# Altium schematic symbol library SmartplugComponents.SchLib: 9 symbols
Pins are listed as number, name and electrical type; pins without a type are passive.

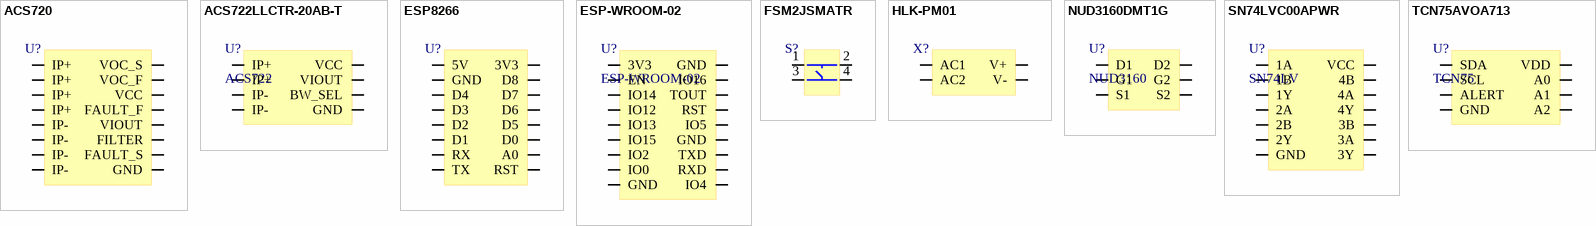
[diagram p0: symbols ACS720 to TCN75AVOA713]

## ACS720
designator U?  (value not drawn)
Differential current sensor; Manufacturer 1: Allegro MicroSystems; Manufacturer Part Number 1: ACS720KLATR-35AB-T; Polarity: Bidirectional; Current Sensing: 35A; Number of Channels: 1; Sensitivity: 38.5mV/A; Frequency: 120kHz; Linearity: 0.75%; Accuracy: 1.6%; Response Time: 4us; Max Supply Current: 16mA; Supplier 1: Digi-Key; Supplier Part Number 1: 620-1875-6-ND; Description 1: CURRENT SENSOR; Stock: 344; Pricing 1: 1=5.42, 5=4.786, 10=4.227, 25=3.4292, 50=3.0306, 100=2.9508, 500=2.47226 (USD); Mount: Surface Mount; Case/Package: SOIC; Number of Pins: 16; Min Operating Temperature: -40°C; Max Operating Temperature: 125°C; Packaging: Tape and Reel; ComponentLink1URL: http://www.allegromicro.com/~/media/Files/Datasheets/ACS720-Datasheet.ashx?src-supplier=Digi-Key; ComponentLink1Description: http://www.allegromicro.com/~/media/Files/Datasheets/ACS720-Datasheet.ashx?src-supplier=Digi-Key; ComponentLink2URL: https://www.allegromicro.com/~/media/Files/Datasheets/ACS720-Datasheet.ashx?src-supplier=Digi-Key; ComponentLink2Description: https://www.allegromicro.com/~/media/Files/Datasheets/ACS720-Datasheet.ashx?src-supplier=Digi-Key
footprint SOP16
pins: 1 IP+, 2 IP+, 3 IP+, 4 IP+, 5 IP-, 6 IP-, 7 IP-, 8 IP-, 9 GND, 10 FAULT_S, 11 FILTER, 12 VIOUT, 13 FAULT_F, 14 VCC, 15 VOC_F, 16 VOC_S

## ACS722LLCTR-20AB-T
designator U?, comment ACS722
SENSOR CURRENT HALL 20A AC/DC; Manufacturer 1: Allegro MicroSystems; Manufacturer Part Number 1: ACS722LLCTR-20AB-T; Number of Channels: 1; Frequency: 80kHz; Response Time: 5us; Max Supply Current: 12mA; Polarity: Bidirectional; Max Input Voltage: 3.6V; Min Input Voltage: 3V; Linearity: 1%; Accuracy: 3%; Quiescent Current: 9mA; Sensitivity: 66mV/A; Supplier 1: Digi-Key; Supplier Part Number 1: 620-1637-6-ND; Description 1: SENSOR CURRENT HALL 20A AC/DC; Stock: 4729; Pricing 1: 1=4.91, 5=4.332, 10=3.827, 25=3.1052, 50=2.7442, 100=2.672, 500=2.23866, 1000=2.09424 (USD); Case/Package: SOIC; Number of Pins: 8; Packaging: Tape and Reel; Bandwidth: 80kHz; Current Sensing: 20A; Length: 4.9mm; Height: 1.5mm; Width: 3.9mm; ComponentLink1URL: https://www.allegromicro.com/~/media/Files/Datasheets/ACS722-Datasheet.ashx?src-supplier=Digi-Key; ComponentLink1Description: https://www.allegromicro.com/~/media/Files/Datasheets/ACS722-Datasheet.ashx?src-supplier=Digi-Key; ComponentLink2URL: http://www.allegromicro.com/~/media/Files/Datasheets/ACS722-Datasheet.ashx?src-supplier=Digi-Key; ComponentLink2Description: http://www.allegromicro.com/~/media/Files/Datasheets/ACS722-Datasheet.ashx?src-supplier=Digi-Key
footprint SOIC8
pins: 1 IP+, 2 IP+, 3 IP-, 4 IP-, 5 GND, 6 BW_SEL, 7 VIOUT, 8 VCC

## ESP8266
designator U?, comment Wemos D1 mini  (value not drawn)
ESP8266 based MCU with Wi-Fi
footprint WEMOS_D1
pins: 1 5V, 2 GND, 3 D4, 4 D3, 5 D2, 6 D1, 7 RX, 8 TX, 9 RST, 10 A0, 11 D0, 12 D5, 13 D6, 14 D7, 15 D8, 16 3V3

## ESP-WROOM-02
designator U?
ESP8266 based MCU; Manufacturer 1: Espressif Systems; Description 1: SMD MODULE, ESP8266EX, 16MBITS S; Frequency: 2.5GHz; Data Rate: 72.2Mbps; Sensitivity: -98dBm; Current - Transmitting: 170mA; Supplier 1: Digi-Key; Supplier Part Number 1: 1904-1009-6-ND; Manufacturer Part Number 1: ESP-WROOM-02; Stock: 19187; Pricing 1: 1=2.7 (USD); Mount: Surface Mount; Case/Package: SMD/SMT; Min Operating Temperature: -40°C; Max Operating Temperature: 85°C; Packaging: Tape and Reel; ComponentLink1URL: https://www.espressif.com/sites/default/files/documentation/esp-wroom-02_pcb_design_and_module_placement_guide_0.pdf?src-supplier=Digi-Key; ComponentLink1Description: https://www.espressif.com/sites/default/files/documentation/esp-wroom-02_pcb_design_and_module_placement_guide_0.pdf?src-supplier=Digi-Key
footprint ESP-WROOM-02
pins: 1 3V3, 2 EN, 3 IO14, 4 IO12, 5 IO13, 6 IO15, 7 IO2, 8 IO0, 9 GND, 10 IO4, 11 RXD, 12 TXD, 13 GND, 14 IO5, 15 RST, 16 TOUT, 17 IO16, 18 GND

## FSM2JSMATR
designator S?  (value not drawn)
ALCOSWITCH - TE CONNECTIVITY - FSM2JSMATR - SWITCH, TACTILE SPST 50mA, SMD GULL WING; Manufacturer 1: TE Connectivity Alcoswitch; Mechanical Life: 100000Cycles; Actuator Material: Polyphenylene; Voltage Rating (DC): 24V; Operating Force: 160gf; Max Voltage Rating (DC): 12V; Contact Resistance: 100mR; Illumination Type: Non-Illuminated,Illuminated; Switch Travel: 0.25mm; Switch Function: Off-Mom; Actuator Type: Standard; Actuator Length: 0.7mm; Supplier 1: Digi-Key; Supplier Part Number 1: 450-1757-6-ND; Manufacturer Part Number 1: FSM2JSMATR; Description 1: ALCOSWITCH - TE CONNECTIVITY - FSM2JSMATR - SWITCH, TACTILE SPST 50mA, SMD GULL WING; Stock: 18417; Pricing 1: 1=0.38, 10=0.362, 25=0.3492, 50=0.3362, 100=0.3233, 250=0.29744, 500=0.25866 (USD); Mount: Surface Mount; Case/Package: SMD/SMT; Contact Material: Copper Alloy; Contact Plating: Silver; Color: Grey; Min Operating Temperature: -35°C; Max Operating Temperature: 85°C; Package Quantity: 1200; Packaging: Tape and Reel; Contact Current Rating: 50mA; Current Rating: 50mA; Termination: Gull Wing; Throw Configuration: SPST; Electrical Life: 100000Cycles; Orientation: Straight; Voltage Rating (AC): 24V; Type: Switch; REACH SVHC: Unknown; ComponentLink1URL: https://www.te.com/commerce/DocumentDelivery/DDEController?Action=srchrtrv&DocNm=1308111-1_SWITCHES_CORE_PROGRAM_CATALOG&DocType=CS&DocLang=English&src-supplier=Digi-Key; ComponentLink1Description: https://www.te.com/commerce/DocumentDelivery/DDEController?Action=srchrtrv&DocNm=1308111-1_SWITCHES_CORE_PROGRAM_CATALOG&DocType=CS&DocLang=English&src-supplier=Digi-Key
footprint SWITCH4
pins: 1, 2, 3, 4

## HLK-PM01
designator X?, comment AC/DC  (value not drawn)
220Vac to 5Vdc converter (3W)
footprint HLK-PM01
pins: 1 AC1, 2 AC2, 3 V-, 4 V+

## NUD3160DMT1G
designator U?, comment NUD3160
IC INDCT LOAD DRVR INDUST SC74-6; Manufacturer 1: ON Semiconductor; Manufacturer Part Number 1: NUD3160DMT1G; Number of Outputs: 2; Max Supply Voltage: 60V; Rise Time: 600ns; Interface: On/Off; Max Output Current: 150mA; Gate to Source Voltage (Vgs): 12V; Power Dissipation: 380mW; Output Configuration: Low Side; Output Current: 200mA; Output Voltage: 61V; Current Rating: 263mA; Drain to Source Resistance: 1.8R; Element Configuration: Dual; On-State Resistance: 3.7R; Supplier 1: Digi-Key; Supplier Part Number 1: NUD3160DMT1GOSDKR-ND; Description 1: IC INDCT LOAD DRVR INDUST SC74-6; Stock: 11786; Pricing 1: 1=0.45, 10=0.367, 100=0.2264, 500=0.17176, 1000=0.12882 (USD); Mount: Surface Mount; Case/Package: SC; Number of Pins: 6; Contact Plating: Tin,Matte; Min Operating Temperature: -40°C; Max Operating Temperature: 125°C; Packaging: Tape and Reel; Package Quantity: 3000; Continuous Drain Current (ID): 150mA; Fall Time: 600ns; Number of Elements: 2; Drain to Source Breakdown Voltage: 60V; Drain to Source Voltage (Vdss): 60V; Length: 3mm; Height: 0.94mm; Width: 1.5mm; Radiation Hardening: No; Lead Free: Lead Free; Halogen Free: Halogen Free; REACH SVHC: No SVHC; ComponentLink1URL: http://www.onsemi.com/pub_link/Collateral/NUD3160-D.PDF?src-supplier=Digi-Key; ComponentLink1Description: http://www.onsemi.com/pub_link/Collateral/NUD3160-D.PDF?src-supplier=Digi-Key; ComponentLink2URL: http://www.onsemi.ru.com/pub/Collateral/NUD3160-D.PDF?src-supplier=Avnet+Europe; ComponentLink2Description: http://www.onsemi.ru.com/pub/Collateral/NUD3160-D.PDF?src-supplier=Avnet+Europe; ComponentLink3URL: http://www.onsemi.com/pub/Collateral/NUD3160-D.PDF?src-supplier=Digi-Key; ComponentLink3Description: http://www.onsemi.com/pub/Collateral/NUD3160-D.PDF?src-supplier=Digi-Key; ComponentLink4URL: http://www.onsemi.cn/pub_link/Collateral/NUD3160-D.PDF?src-supplier=Avnet; ComponentLink4Description: http://www.onsemi.cn/pub_link/Collateral/NUD3160-D.PDF?src-supplier=Avnet; ComponentLink5URL: http://www.onsemi.ru.com/pub/Collateral/NUD3160-D.PDF?src-supplier=Avnet; ComponentLink5Description: http://www.onsemi.ru.com/pub/Collateral/NUD3160-D.PDF?src-supplier=Avnet
footprint SC-74
pins: 1 S1, 2 G1, 3 D2, 4 S2, 5 G2, 6 D1

## SN74LVC00APWR
designator U?, comment SN74LV
IC GATE NAND 4CH 2-INP 14-SSOP; Manufacturer 1: Texas Instruments; Manufacturer Part Number 1: SN74LVC00APWR; Description 1: IC GATE NAND 4CH 2-INP 14TSSOP; Propagation Delay: 4.1ns; Min Supply Voltage: 1.65V; Max Supply Voltage: 3.6V; Number of Elements: 4; Turn-On Delay Time: 4.3ns; Number of Inputs: 2; Number of Outputs: 1; Output Current: 24mA; Quiescent Current: 1uA; High Level Output Current: -24mA; Schmitt Trigger Input: No; Supplier 1: Digi-Key; Supplier Part Number 1: 296-1216-6-ND; Stock: 19024; Pricing 1: 1=0.41, 10=0.308, 100=0.1918, 500=0.13122, 1000=0.10094 (USD); Mount: Surface Mount; Case/Package: TSSOP; Number of Pins: 14; Weight: 0.002018oz; Contact Plating: Gold; Min Operating Temperature: -40°C; Max Operating Temperature: 125°C; Package Quantity: 1; Packaging: Tape and Reel; Logic Function: NAND; Number of Bits: 4; Number of Gates: 4; Number of Circuits: 4; Low Level Output Current: 24mA; Number of Input Lines: 2; Number of Output Lines: 1; Max Output Current: 24mA; Termination: SMD/SMT; Length: 5mm; Height: 1.15mm; Width: 4.4mm; Radiation Hardening: No; Lead Free: Lead Free; REACH SVHC: No SVHC; ComponentLink1URL: http://www.ti.com/lit/ds/symlink/sn74lvc00a.pdf?src-supplier=Digi-Key; ComponentLink1Description: http://www.ti.com/lit/ds/symlink/sn74lvc00a.pdf?src-supplier=Digi-Key; ComponentLink2URL: http://www.ti.com/general/docs/lit/getliterature.tsp?genericPartNumber=SN54LVC00A&&fileType=pdf&src-supplier=Avnet; ComponentLink2Description: http://www.ti.com/general/docs/lit/getliterature.tsp?genericPartNumber=SN54LVC00A&&fileType=pdf&src-supplier=Avnet; ComponentLink3URL: http://www.ti.com/general/docs/lit/getliterature.tsp?genericPartNumber=SN74LVC00A&amp;&amp;fileType=pdf&src-supplier=Newark; ComponentLink3Description: http://www.ti.com/general/docs/lit/getliterature.tsp?genericPartNumber=SN74LVC00A&amp;&amp;fileType=pdf&src-supplier=Newark; ComponentLink4URL: http://www.farnell.com/datasheets/1764343.pdf?src-supplier=Element14; ComponentLink4Description: http://www.farnell.com/datasheets/1764343.pdf?src-supplier=Element14; ComponentLink5URL: http://www.farnell.com/datasheets/2018849.pdf?src-supplier=Element14; ComponentLink5Description: http://www.farnell.com/datasheets/2018849.pdf?src-supplier=Element14; ComponentLink6URL: http://www.produktinfo.conrad.com/datenblaetter/1000000-1099999/001017089-da-01-en-IC_QUA_2IN_PO_SN74LVC00APWR_TSSOP_14_TID.pdf?src-supplier=Conrad; ComponentLink6Description: http://www.produktinfo.conrad.com/datenblaetter/1000000-1099999/001017089-da-01-en-IC_QUA_2IN_PO_SN74LVC00APWR_TSSOP_14_TID.pdf?src-supplier=Conrad
footprint TSSOP14
pins: 1 1A, 2 1B, 3 1Y, 4 2A, 5 2B, 6 2Y, 7 GND, 8 3Y, 9 3A, 10 3B, 11 4Y, 12 4A, 13 4B, 14 VCC

## TCN75AVOA713
designator U?, comment TCN75
Temperature Sensor Digital Local -40°C ~ 125°C 11b 8-SOIC; Manufacturer 1: Microchip; Manufacturer Part Number 1: TCN75AVOA713; Description 1: Temp Sensor Digital Serial (2-Wire, I2C) 8-Pin SOIC N T/R; Max Supply Voltage: 5.5V; Min Supply Voltage: 2.7V; Interface: I2C,SMBus,2-Wire,Serial; Operating Supply Current: 200uA; Output Type: I2C,Digital; Supplier 1: Mouser; Supplier Part Number 1: 579-TCN75AVOA713; Stock: 2705; Pricing 1: 1=0.7, 10=0.7, 25=0.58, 100=0.53, 250=0.53, 500=0.53 (USD); Mount: Surface Mount; Case/Package: SOIC; Number of Pins: 8; Contact Plating: Tin,Matte; Min Operating Temperature: -55°C; Max Operating Temperature: 125°C; Package Quantity: 3300; Packaging: Tape and Reel; Max Supply Voltage (DC): 5.5V; Min Supply Voltage (DC): 2.7V; Resolution: 11b; Radiation Hardening: No; Lead Free: Lead Free; ComponentLink1URL: http://www.microchip.com/mymicrochip/filehandler.aspx?ddocname=en022251&src-supplier=Future+Electronics; ComponentLink1Description: http://www.microchip.com/mymicrochip/filehandler.aspx?ddocname=en022251&src-supplier=Future+Electronics; ComponentLink2URL: http://www.microchip.com/mymicrochip/filehandler.aspx?ddocname=en026002&src-supplier=Digi-Key; ComponentLink2Description: http://www.microchip.com/mymicrochip/filehandler.aspx?ddocname=en026002&src-supplier=Digi-Key; ComponentLink3URL: http://ww1.microchip.com/downloads/en/DeviceDoc/21935D.pdf?src-supplier=Avnet+Europe; ComponentLink3Description: http://ww1.microchip.com/downloads/en/DeviceDoc/21935D.pdf?src-supplier=Avnet+Europe; ComponentLink4URL: http://ww1.microchip.com/downloads/en/DeviceDoc/21490D.pdf?src-supplier=Avnet; ComponentLink4Description: http://ww1.microchip.com/downloads/en/DeviceDoc/21490D.pdf?src-supplier=Avnet
footprint SOIC8
pins: 1 SDA, 2 SCL, 3 ALERT, 4 GND, 5 A2, 6 A1, 7 A0, 8 VDD